# Altium schematic symbol library ADM6-50-01.5-L-4-2-A-TR.SchLib: 1 symbol
Pins are listed as number, name and electrical type; pins without a type are passive.

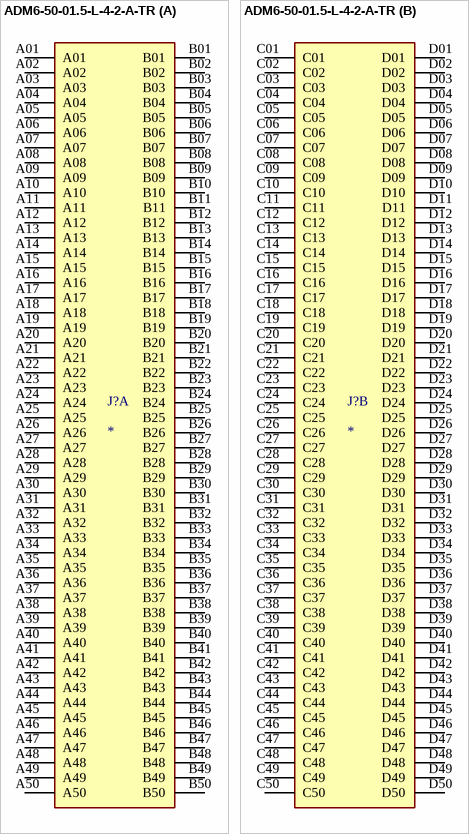
[diagram p0: symbol ADM6-50-01.5-L-4-2-A-TR]

## ADM6-50-01.5-L-4-2-A-TR
designator J?
0.635 mm AcceleRate HD High-Density 4-Row Header; MP: ADM6-50-01.5-L-4-2-A-TR; MF: {'manufacturer': u'Samtec Inc.'}; Price: None; Availability: Unavailable; Package: None; Value: *
footprint SAMTEC_ADM6-50-01.5-L-4-2-A-TR
part A pins: A01, A02, A03, A04, A05, A06, A07, A08, A09, A10, A11, A12, A13, A14, A15, A16, A17, A18, A19, A20, A21, A22, A23, A24, A25, A26, A27, A28, A29, A30, A31, A32, A33, A34, A35, A36, A37, A38, A39, A40, A41, A42, A43, A44, A45, A46, A47, A48, A49, A50, B01, B02, B03, B04, B05, B06, B07, B08, B09, B10, B11, B12, B13, B14, B15, B16, B17, B18, B19, B20, B21, B22, B23, B24, B25, B26, B27, B28, B29, B30, B31, B32, B33, B34, B35, B36, B37, B38, B39, B40, B41, B42, B43, B44, B45, B46, B47, B48, B49, B50
part B pins: C01, C02, C03, C04, C05, C06, C07, C08, C09, C10, C11, C12, C13, C14, C15, C16, C17, C18, C19, C20, C21, C22, C23, C24, C25, C26, C27, C28, C29, C30, C31, C32, C33, C34, C35, C36, C37, C38, C39, C40, C41, C42, C43, C44, C45, C46, C47, C48, C49, C50, D01, D02, D03, D04, D05, D06, D07, D08, D09, D10, D11, D12, D13, D14, D15, D16, D17, D18, D19, D20, D21, D22, D23, D24, D25, D26, D27, D28, D29, D30, D31, D32, D33, D34, D35, D36, D37, D38, D39, D40, D41, D42, D43, D44, D45, D46, D47, D48, D49, D50